# Altium schematic symbol library PIC18F452-I_P.SchLib: 1 symbol
Pins are listed as number, name and electrical type; pins without a type are passive.

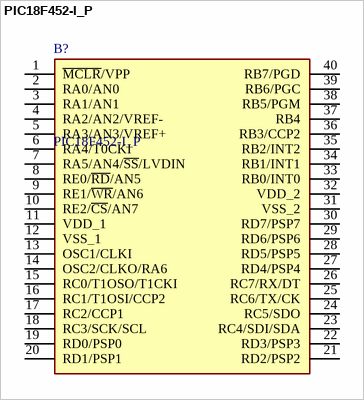
[diagram p0: symbol PIC18F452-I_P]

## PIC18F452-I_P
designator B?
Microcontroller,PIC18F452-I/P 40MHz Microchip PIC18F452-I/P, 8bit PIC Microcontroller, 40MHz, 32 kB Flash, 40-Pin PDIP; Geometry.Height: 4.83mm; Mouser Part Number: 579-PIC18F452-I/P; Mouser Price/Stock: https://www.mouser.co.uk/ProductDetail/Microchip-Technology-Atmel/PIC18F452-I-P?qs=huzeVNXgovVccIn1hiWGAA%3D%3D; Manufacturer_Name: Microchip; Manufacturer_Part_Number: PIC18F452-I/P; Datasheet Link: https://datasheet.datasheetarchive.com/originals/distributors/Datasheets-18/DSA-359063.pdf
footprint DIP1550W56P254L5219H483Q40N
pins: 1 ~{MCLR}/VPP, 2 RA0/AN0, 3 RA1/AN1, 4 RA2/AN2/VREF-, 5 RA3/AN3/VREF+, 6 RA4/T0CKI, 7 RA5/AN4/~{SS}/LVDIN, 8 RE0/~{RD}/AN5, 9 RE1/~{WR}/AN6, 10 RE2/~{CS}/AN7, 11 VDD_1 (power), 12 VSS_1, 13 OSC1/CLKI, 14 OSC2/CLKO/RA6, 15 RC0/T1OSO/T1CKI, 16 RC1/T1OSI/CCP2, 17 RC2/CCP1, 18 RC3/SCK/SCL, 19 RD0/PSP0, 20 RD1/PSP1, 21 RD2/PSP2, 22 RD3/PSP3, 23 RC4/SDI/SDA, 24 RC5/SDO, 25 RC6/TX/CK, 26 RC7/RX/DT, 27 RD4/PSP4, 28 RD5/PSP5, 29 RD6/PSP6, 30 RD7/PSP7, 31 VSS_2, 32 VDD_2 (power), 33 RB0/INT0, 34 RB1/INT1, 35 RB2/INT2, 36 RB3/CCP2, 37 RB4, 38 RB5/PGM, 39 RB6/PGC, 40 RB7/PGD